# Altium schematic symbol library lab_01.SchLib: 4 symbols
Pins are listed as number, name and electrical type; pins without a type are passive.

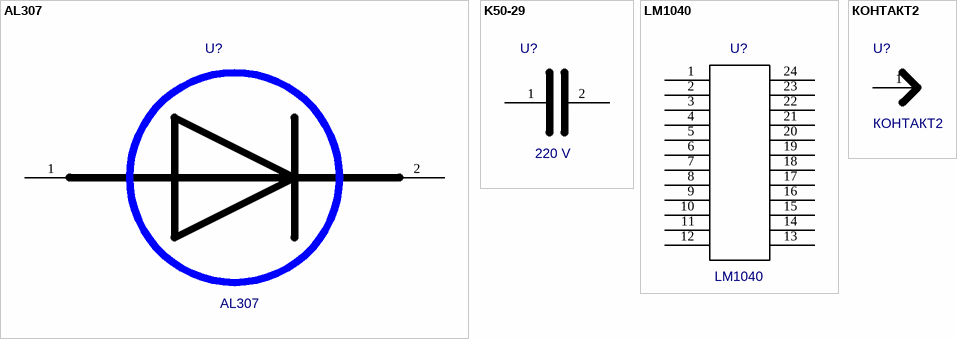
[diagram p0: symbols AL307 to КОНТАКТ2]

## AL307
designator U?
Value: *
pins: 1, 2

## K50-29
designator U?  value 220 V  (hidden comment: *)
pins: 1, 2

## LM1040
designator U?
Value: *
pins: 1, 2, 3, 4, 5, 6, 7, 8, 9, 10, 11, 12, 13, 14, 15, 16, 17, 18, 19, 20, 21, 22, 23, 24

## КОНТАКТ2
designator U?
Value: *
pins: 1